# Altium schematic symbol library Symbols.SchLib: 5 symbols
Pins are listed as number, name and electrical type; pins without a type are passive.

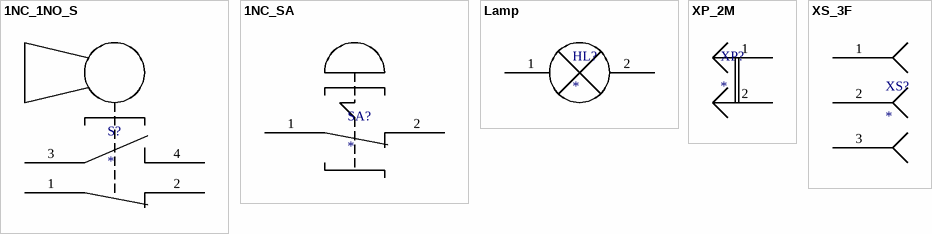
[diagram p0: symbols 1NC_1NO_S to XS_3F]

## 1NC_1NO_S
designator S?
pins: 1 COM1, 2 NC1, 3 COM2, 4 NO2

## 1NC_SA
designator SA?
pins: 1 COM, 2 NC

## Lamp
designator HL?
pins: 1 L, 2 N

## XP_2M
designator XP?
pins: 1 OUT1, 2 OUT2

## XS_3F
designator XS?
pins: 1 L, 2 N, 3 G